# Altium schematic symbol library Schlib.SchLib: 1 symbol
Pins are listed as number, name and electrical type; pins without a type are passive.

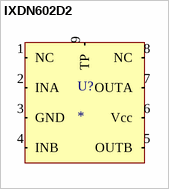
[diagram p0: symbol IXDN602D2]

## IXDN602D2
designator U?
IXD_602 / 2-Ampere Dual Low-Side / Ultrafast MOSFET Drivers
footprint IXDN602D2 (DFN, 8-Leads)
pins: 1 NC, 2 INA, 3 GND, 4 INB, 5 OUTB, 6 Vcc, 7 OUTA, 8 NC, 9 TP